# EAGLE library part SSW-111-02-S-T (library con-samtec)
THROUGH-HOLE .025" SQ POST SOCKET Source: Samtec SSW.pdf
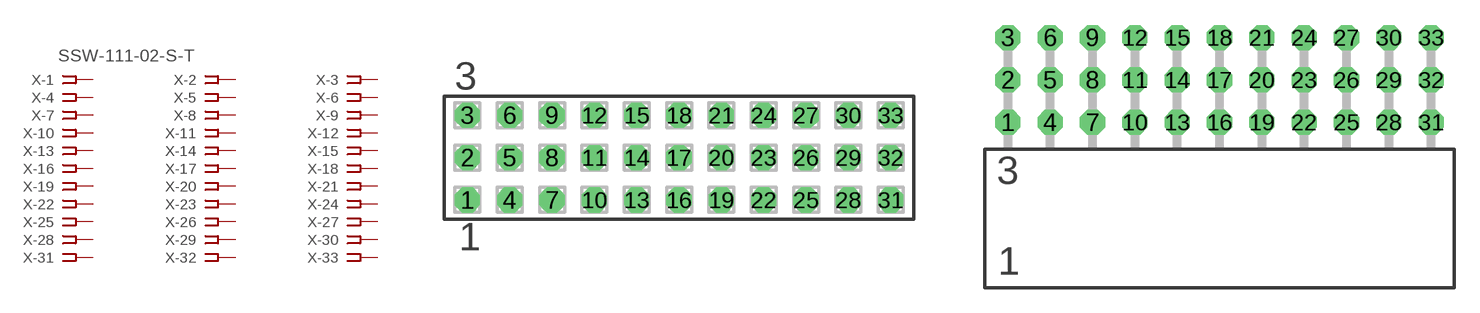
[diagram p45: symbol with the pads of SSW-111-02-S-T; footprints SSW-111-02-S-T, SSW-111-02-S-T-RA]

Designator prefix X; gates -1=FPINV -2=FPIN -3=FPIN -4=FPIN -5=FPIN -6=FPIN -7=FPIN -8=FPIN -9=FPIN -10=FPIN -11=FPIN -12=FPIN -13=FPIN -14=FPIN -15=FPIN -16=FPIN -17=FPIN -18=FPIN -19=FPIN -20=FPIN -21=FPIN -22=FPIN -23=FPIN -24=FPIN -25=FPIN -26=FPIN -27=FPIN -28=FPIN -29=FPIN -30=FPIN -31=FPIN -32=FPIN -33=FPIN

## SSW-111-02-S-T (MPN: SSW-111-02-S-T; OC_FARNELL: unknown; OC_NEWARK: 82P5676)  [SSW-111-02-S-T]
1  -1:1  pas
2  -2:1  pas
3  -3:1  pas
4  -4:1  pas
5  -5:1  pas
6  -6:1  pas
7  -7:1  pas
8  -8:1  pas
9  -9:1  pas
10  -10:1  pas
11  -11:1  pas
12  -12:1  pas
13  -13:1  pas
14  -14:1  pas
15  -15:1  pas
16  -16:1  pas
17  -17:1  pas
18  -18:1  pas
19  -19:1  pas
20  -20:1  pas
21  -21:1  pas
22  -22:1  pas
23  -23:1  pas
24  -24:1  pas
25  -25:1  pas
26  -26:1  pas
27  -27:1  pas
28  -28:1  pas
29  -29:1  pas
30  -30:1  pas
31  -31:1  pas
32  -32:1  pas
33  -33:1  pas

## SSW-111-02-S-TRA (MPN: SSW-111-02-S-T-RA; OC_FARNELL: unknown; OC_NEWARK: 82P5677)  [SSW-111-02-S-T-RA]
Pads as for SSW-111-02-S-T

## Footprint SSW-111-02-S-T (pad centres in mm)
THROUGH-HOLE .025" SQ POST SOCKET Source: Samtec SSW.pdf
drill 1 pad 1.5 octagon: 1 -12.7,-2.54; 2 -12.7,0; 3 -12.7,2.54; 4 -10.16,-2.54; 5 -10.16,0; 6 -10.16,2.54; 7 -7.62,-2.54; 8 -7.62,0; 9 -7.62,2.54; 10 -5.08,-2.54; 11 -5.08,0; 12 -5.08,2.54; 13 -2.54,-2.54; 14 -2.54,0; 15 -2.54,2.54; 16 0,-2.54; 17 0,0; 18 0,2.54; 19 2.54,-2.54; 20 2.54,0; 21 2.54,2.54; 22 5.08,-2.54; 23 5.08,0; 24 5.08,2.54; 25 7.62,-2.54; 26 7.62,0; 27 7.62,2.54; 28 10.16,-2.54; 29 10.16,0; 30 10.16,2.54; 31 12.7,-2.54; 32 12.7,0; 33 12.7,2.54

## Footprint SSW-111-02-S-T-RA (pad centres in mm)
THROUGH-HOLE .025" SQ POST SOCKET Source: Samtec SSW.pdf
drill 1 pad 1.5 octagon: 1 -12.7,1.524; 2 -12.7,4.064; 3 -12.7,6.604; 4 -10.16,1.524; 5 -10.16,4.064; 6 -10.16,6.604; 7 -7.62,1.524; 8 -7.62,4.064; 9 -7.62,6.604; 10 -5.08,1.524; 11 -5.08,4.064; 12 -5.08,6.604; 13 -2.54,1.524; 14 -2.54,4.064; 15 -2.54,6.604; 16 0,1.524; 17 0,4.064; 18 0,6.604; 19 2.54,1.524; 20 2.54,4.064; 21 2.54,6.604; 22 5.08,1.524; 23 5.08,4.064; 24 5.08,6.604; 25 7.62,1.524; 26 7.62,4.064; 27 7.62,6.604; 28 10.16,1.524; 29 10.16,4.064; 30 10.16,6.604; 31 12.7,1.524; 32 12.7,4.064; 33 12.7,6.604